# Altium footprint library Footprint_Miscellaneous Connectors.PcbLib: 183 footprints (part 9 of 12)
Each footprint in its own frame and in the unit in brackets; x right, y up, seen from the top. Pads: shape width x height; smd on the part's side, far side on the other; paste and mask are expansions set on the pad; w line width, h text height; cw(c..) or ccw(c..) is an arc to the next point about the centre after c.
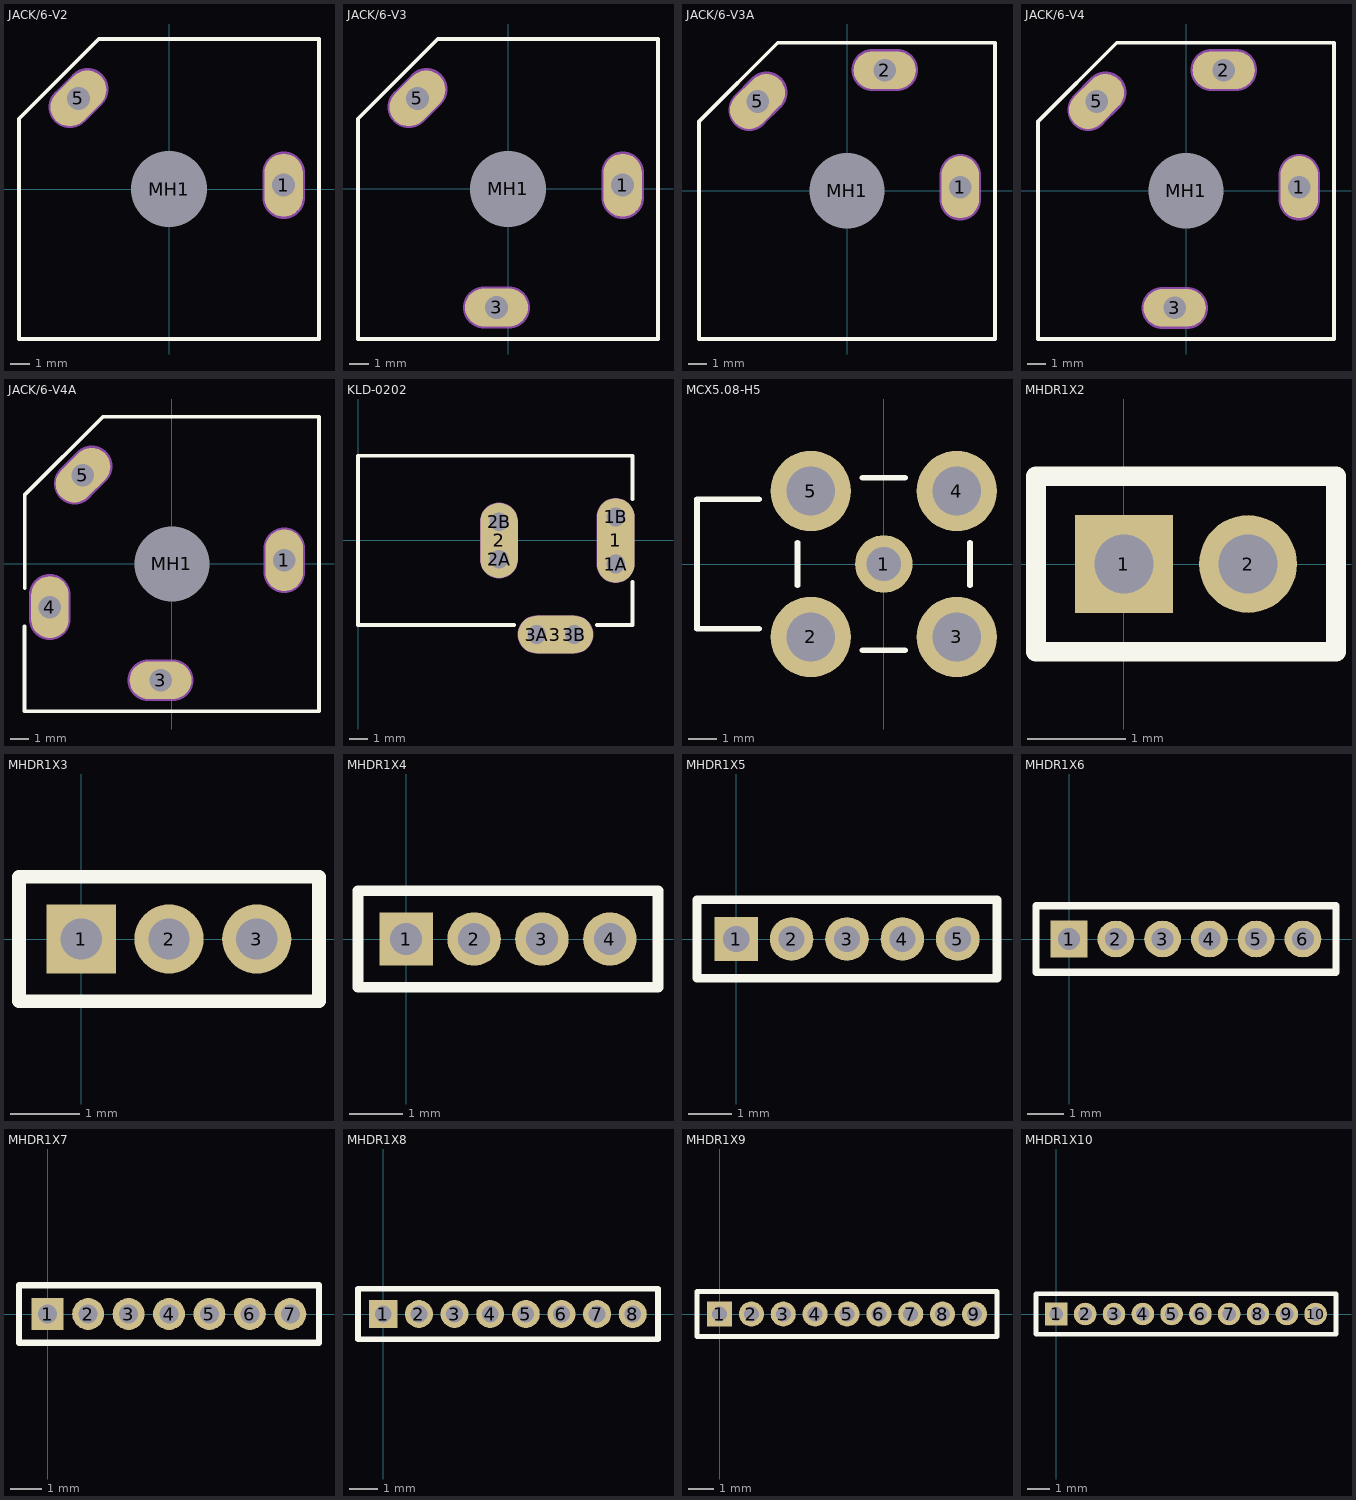
[diagram p8: the footprints below, top view; thin cyan lines are the x and y axes]

## JACK/6-V2 [mm] "Connector; Jack Socket, 1/4\" [6.5mm], Thru-Hole, 2 Position, Vertical, Body 15.7 x 15.7 x 31 mm (WxTxH)"
height 31.1
pads (3):
  oval 2x3.3 hole 1.2: 1(6,0.2)
  oval 2x3.3 hole 1.2 rot 135: 5(-4.738,4.738)
  round 3.7 hole 4: MH1(0,0)
Top Overlay:
  lines w0.2: -7.85,-7.85 7.85,-7.85 7.85,7.85 -3.675,7.85 -7.85,3.675 -7.85,-7.85
Mechanical 1:
  lines w1.2: -5.185,4.295 -4.266,5.214 ; 6,-0.45 6,0.85
  text "Alert PCB fab to slot details" at -7.9,9.66 h0.3
  text "Slot 1.2x2.5mm, PTH" at -7.9,9.16 h0.3
  text "Assign keep-out area to slot" at -7.9,10.16 h0.3
  text "Mech 1 - Slot cut-out" at -7.9,8.66 h0.3
  text "Mech 2 - Clearance, move to internal plane if present" at -7.9,8.16 h0.3
Mechanical 2:
  lines w2.216: -5.185,4.295 -4.266,5.214 ; 6,-0.45 6,0.85

## JACK/6-V3 [mm] "Connector; Jack Socket, 1/4\" [6.5mm], Thru-Hole, 3 Position, Vertical, Body 15.7 x 15.7 x 31 mm (WxTxH)"
height 31.1
pads (4):
  oval 2x3.3 hole 1.2: 1(6,0.2)
  oval 3.3x2 hole 1.2: 3(-0.6,-6.2)
  oval 2x3.3 hole 1.2 rot 135: 5(-4.738,4.738)
  round 3.7 hole 4: MH1(0,0)
Top Overlay:
  lines w0.2: -7.85,-7.85 -7.85,3.675 -3.675,7.85 7.85,7.85 7.85,-7.85 -7.85,-7.85
Mechanical 1:
  lines w1.2: -5.185,4.295 -4.266,5.214 ; -1.25,-6.2 0.05,-6.2 ; 6,-0.45 6,0.85
  text "Mech 2 - Clearance, move to internal plane if present" at -7.9,8.16 h0.3
  text "Mech 1 - Slot cut-out" at -7.9,8.66 h0.3
  text "Assign keep-out area to slot" at -7.9,10.16 h0.3
  text "Slot 1.2x2.5mm, PTH" at -7.9,9.16 h0.3
  text "Alert PCB fab to slot details" at -7.9,9.66 h0.3
Mechanical 2:
  lines w2.216: -5.185,4.295 -4.266,5.214 ; -1.25,-6.2 0.05,-6.2 ; 6,-0.45 6,0.85

## JACK/6-V3A [mm] "Connector; Jack Socket, 1/4\" [6.5mm], Thru-Hole, 3 Position, Vertical, Body 15.7 x 15.7 x 31 mm (WxTxH)"
height 31.1
pads (4):
  oval 2x3.3 hole 1.2: 1(6,0.2)
  oval 3.3x2 hole 1.2: 2(2,6.4)
  oval 2x3.3 hole 1.2 rot 135: 5(-4.738,4.738)
  round 3.7 hole 4: MH1(0,0)
Top Overlay:
  lines w0.2: -7.85,-7.85 7.85,-7.85 7.85,7.85 -3.675,7.85 -7.85,3.675 -7.85,-7.85
Mechanical 1:
  lines w1.2: -5.185,4.295 -4.266,5.214 ; 1.35,6.4 2.65,6.4 ; 6,-0.45 6,0.85
  text "Mech 2 - Clearance, move to internal plane if present" at -7.9,8.16 h0.3
  text "Mech 1 - Slot cut-out" at -7.9,8.66 h0.3
  text "Assign keep-out area to slot" at -7.9,10.16 h0.3
  text "Slot 1.2x2.5mm, PTH" at -7.9,9.16 h0.3
  text "Alert PCB fab to slot details" at -7.9,9.66 h0.3
Mechanical 2:
  lines w2.216: -5.185,4.295 -4.266,5.214 ; 1.35,6.4 2.65,6.4 ; 6,-0.45 6,0.85

## JACK/6-V4 [mm] "Connector; Jack Socket, 1/4\" [6.5mm], Thru-Hole, 4 Position, Vertical, Body 15.7 x 15.7 x 31 mm (WxTxH)"
height 31.1
pads (5):
  oval 2x3.3 hole 1.2: 1(6,0.2)
  oval 3.3x2 hole 1.2: 2(2,6.4) 3(-0.6,-6.2)
  oval 2x3.3 hole 1.2 rot 135: 5(-4.738,4.738)
  round 3.7 hole 4: MH1(0,0)
Top Overlay:
  lines w0.2: -7.85,-7.85 7.85,-7.85 7.85,7.85 -3.675,7.85 -7.85,3.675 -7.85,-7.85
Mechanical 1:
  lines w1.2: -5.185,4.295 -4.266,5.214 ; -1.25,-6.2 0.05,-6.2 ; 1.35,6.4 2.65,6.4 ; 6,-0.45 6,0.85
  text "Mech 2 - Clearance, move to internal plane if present" at -7.9,8.16 h0.3
  text "Mech 1 - Slot cut-out" at -7.9,8.66 h0.3
  text "Assign keep-out area to slot" at -7.9,10.16 h0.3
  text "Slot 1.2x2.5mm, PTH" at -7.9,9.16 h0.3
  text "Alert PCB fab to slot details" at -7.9,9.66 h0.3
Mechanical 2:
  lines w2.216: -5.185,4.295 -4.266,5.214 ; -1.25,-6.2 0.05,-6.2 ; 1.35,6.4 2.65,6.4 ; 6,-0.45 6,0.85

## JACK/6-V4A [mm] "Connector; Jack Socket, 1/4\" [6.5mm], Thru-Hole, 4 Position, Vertical, Body 15.7 x 15.7 x 31 mm (WxTxH)"
height 31.1
pads (5):
  oval 2x3.3 hole 1.2: 1(6,0.2) 4(-6.5,-2.3)
  oval 3.3x2 hole 1.2: 3(-0.6,-6.2)
  oval 2x3.3 hole 1.2 rot 135: 5(-4.738,4.738)
  round 3.7 hole 4: MH1(0,0)
Top Overlay:
  lines w0.2: -7.85,-3.32 -7.85,-7.85 7.85,-7.85 7.85,7.85 -3.675,7.85 -7.85,3.675 -7.85,-1.28
Mechanical 1:
  lines w1.2: -6.5,-2.95 -6.5,-1.65 ; -5.185,4.295 -4.266,5.214 ; -1.25,-6.2 0.05,-6.2 ; 6,-0.45 6,0.85
  text "Mech 2 - Clearance, move to internal plane if present" at -7.9,8.16 h0.3
  text "Mech 1 - Slot cut-out" at -7.9,8.66 h0.3
  text "Assign keep-out area to slot" at -7.9,10.16 h0.3
  text "Slot 1.2x2.5mm, PTH" at -7.9,9.16 h0.3
  text "Alert PCB fab to slot details" at -7.9,9.66 h0.3
Mechanical 2:
  lines w2.216: -6.5,-2.95 -6.5,-1.65 ; -5.185,4.295 -4.266,5.214 ; -1.25,-6.2 0.05,-6.2 ; 6,-0.45 6,0.85

## KLD-0202 [mm] "DC Power Jack, 2.5mm, KLD Series, PCB Mount"
pads (9):
  oval 2x4.5 all layers, no hole: 1(13.7,0)
  round 1.5 hole 1: 1A(13.7,-1.25) 1B(13.7,1.25) 2A(7.5,-1) 2B(7.5,1) 3A(9.5,-5) 3B(11.5,-5)
  oval 2x4 all layers, no hole: 2(7.5,0)
  oval 4x2 all layers, no hole: 3(10.5,-5)
Top Overlay:
  lines w0.2: 8.3,-4.5 0,-4.5 0,4.5 14.6,4.5 14.6,2.2 ; 12.7,-4.5 14.6,-4.5 14.6,-2.2
Mechanical 1:
  lines w1: 7.5,-1 7.5,1 ; 9.5,-5 11.5,-5 ; 13.7,-1.25 13.7,1.25
  text "Alert PCB fab to slot details" at 0.286,6.066 h0.3
  text "Assign keep-out area to slot" at 0.286,6.566 h0.3
  text "Mech 1 - Slot cut-out" at 0.286,5.566 h0.3
  text "Mech 2 - Clearance, move to internal plane if present" at 0.286,5.066 h0.3
Mechanical 2:
  lines w2.016: 7.5,-1 7.5,1 ; 9.5,-5 11.5,-5 ; 13.7,-1.25 13.7,1.25

## MCX5.08-H5 [mm] "Connector; RF Coaxial, MCX, Thru-Hole; 5 Position; Right-Angle"
height 5.85
pads (5):
  round 2 hole 1.2: 1(0,0)
  round 2.8 hole 1.7: 2(-2.54,-2.54) 3(2.54,-2.54) 4(2.54,2.54) 5(-2.54,2.54)
Top Overlay:
  lines w0.2: -4.34,-2.25 -6.5,-2.25 -6.5,2.25 -4.34,2.25 ; -3,-0.74 -3,0.74 ; -0.74,-3 0.74,-3 ; -0.74,3 0.74,3 ; 3,-0.74 3,0.74

## MHDR1X2 [mm] "Connector; Header; 2 Position"
pads (2):
  rect 1x1 hole 0.6: 1(0,0)
  round 1 hole 0.6: 2(1.27,0)
Top Overlay:
  lines w0.2: -0.9,-0.9 -0.9,0.9 2.17,0.9 2.17,-0.9 -0.9,-0.9

## MHDR1X3 [mm] "Connector; Header; 3 Position"
pads (3):
  rect 1x1 hole 0.6: 1(0,0)
  round 1 hole 0.6: 2(1.27,0) 3(2.54,0)
Top Overlay:
  lines w0.2: -0.9,-0.9 3.44,-0.9 3.44,0.9 -0.9,0.9 -0.9,-0.9

## MHDR1X4 [mm] "Connector; Header; 4 Position"
pads (4):
  rect 1x1 hole 0.6: 1(0,0)
  round 1 hole 0.6: 2(1.27,0) 3(2.54,0) 4(3.81,0)
Top Overlay:
  lines w0.2: -0.9,-0.9 -0.9,0.9 4.71,0.9 4.71,-0.9 -0.9,-0.9

## MHDR1X5 [mm] "Connector; Header; 5 Position"
pads (5):
  rect 1x1 hole 0.6: 1(0,0)
  round 1 hole 0.6: 2(1.27,0) 3(2.54,0) 4(3.81,0) 5(5.08,0)
Top Overlay:
  lines w0.2: -0.9,-0.9 -0.9,0.9 5.98,0.9 5.98,-0.9 -0.9,-0.9

## MHDR1X6 [mm] "Connector; Header; 6 Position"
pads (6):
  rect 1x1 hole 0.6: 1(0,0)
  round 1 hole 0.6: 2(1.27,0) 3(2.54,0) 4(3.81,0) 5(5.08,0) 6(6.35,0)
Top Overlay:
  lines w0.2: -0.9,-0.9 7.25,-0.9 7.25,0.9 -0.9,0.9 -0.9,-0.9

## MHDR1X7 [mm] "Connector; Header; 7 Position"
pads (7):
  rect 1x1 hole 0.6: 1(0,0)
  round 1 hole 0.6: 2(1.27,0) 3(2.54,0) 4(3.81,0) 5(5.08,0) 6(6.35,0) 7(7.62,0)
Top Overlay:
  lines w0.2: -0.9,-0.9 -0.9,0.9 8.52,0.9 8.52,-0.9 -0.9,-0.9

## MHDR1X8 [mm] "Connector; Header; 8 Position"
pads (8):
  rect 1x1 hole 0.6: 1(0,0)
  round 1 hole 0.6: 2(1.27,0) 3(2.54,0) 4(3.81,0) 5(5.08,0) 6(6.35,0) 7(7.62,0) 8(8.89,0)
Top Overlay:
  lines w0.2: -0.9,-0.9 -0.9,0.9 9.79,0.9 9.79,-0.9 -0.9,-0.9

## MHDR1X9 [mm] "Connector; Header; 9 Position"
pads (9):
  rect 1x1 hole 0.6: 1(0,0)
  round 1 hole 0.6: 2(1.27,0) 3(2.54,0) 4(3.81,0) 5(5.08,0) 6(6.35,0) 7(7.62,0) 8(8.89,0) 9(10.16,0)
Top Overlay:
  lines w0.2: -0.9,-0.9 11.06,-0.9 11.06,0.9 -0.9,0.9 -0.9,-0.9

## MHDR1X10 [mm] "Connector; Header; 10 Position"
pads (10):
  rect 1x1 hole 0.6: 1(0,0)
  round 1 hole 0.6: 2(1.27,0) 3(2.54,0) 4(3.81,0) 5(5.08,0) 6(6.35,0) 7(7.62,0) 8(8.89,0) 9(10.16,0) 10(11.43,0)
Top Overlay:
  lines w0.2: -0.9,-0.9 -0.9,0.9 12.33,0.9 12.33,-0.9 -0.9,-0.9